# Altium footprint library DO-017AA.PcbLib: 1 footprints
Each footprint in its own frame and in the unit in brackets; x right, y up, seen from the top. Pads: shape width x height; smd on the part's side, far side on the other; paste and mask are expansions set on the pad; w line width, h text height; cw(c..) or ccw(c..) is an arc to the next point about the centre after c.
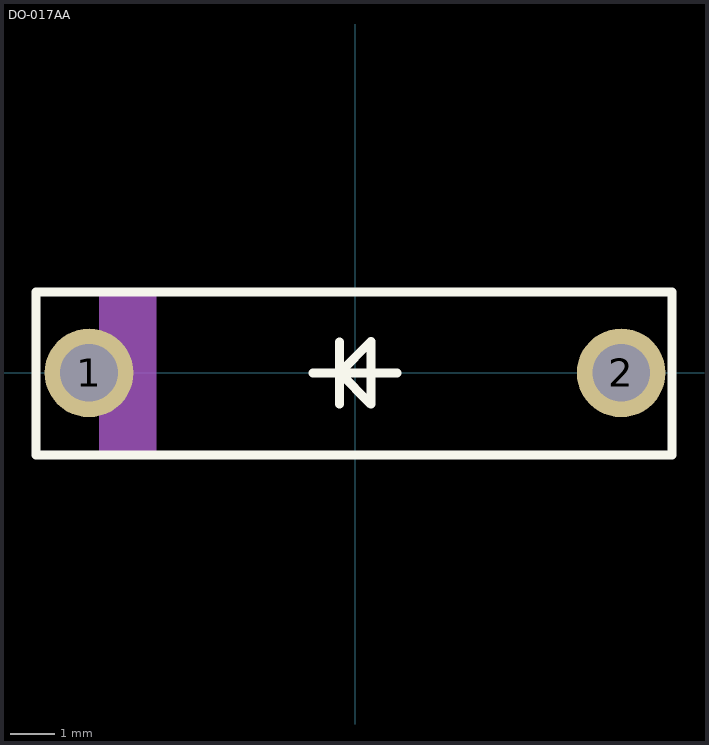
[diagram p0: the footprint, top view; thin cyan lines are the x and y axes]

## DO-017AA [mm]
height 0.9
pads (2):
  round 2 hole 1.3: 1(-6,0) 2(6,0)
Top Overlay:
  lines w0.2: -0.95,0 -0.35,0 ; -0.35,-0.7 -0.35,0 ; -0.35,0.7 -0.35,0 ; 0.95,0 -0.35,0 ; -0.35,0 0.357,-0.707 0.357,0.707 -0.35,0 ; -7.2,-1.85 -7.2,1.825 7.15,1.825 7.15,-1.85 -7.2,-1.85
Top Assembly:
  rectangle: -5.775,-1.875 -4.475,1.8
  lines w0.1: -7.2,-1.85 7.15,-1.85 7.15,-0.763 7.15,0.737 7.15,1.825 -7.2,1.825 -7.2,-1.85
  text "'.Designator'" at -0.95,-0.35 h0.7
3D body "User Library-Diode Case 017AA.STEP": height 3.4, standoff -3, extent -6.625,-1.7 6.375,1.7